# Altium footprint library Capacitor 22pF THT.PcbLib: 3 footprints
Each footprint in its own frame and in the unit in brackets; x right, y up, seen from the top. Pads: shape width x height; smd on the part's side, far side on the other; paste and mask are expansions set on the pad; w line width, h text height; cw(c..) or ccw(c..) is an arc to the next point about the centre after c.
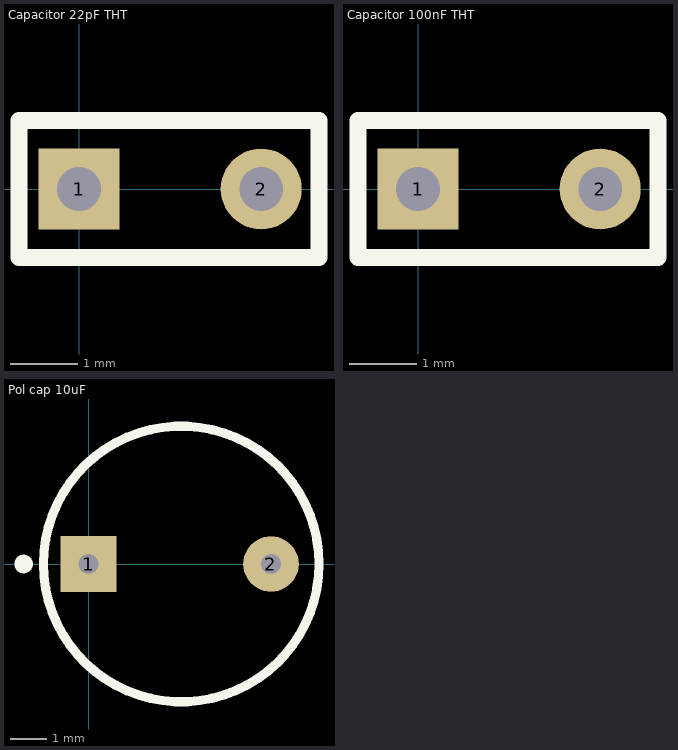
[diagram p0: the footprints below, top view; thin cyan lines are the x and y axes]

## Capacitor 22pF THT [mm]
pads (2):
  rect 1.2x1.2 hole 0.65: 1(0,0)
  round 1.2 hole 0.65: 2(2.7,0)
Top Overlay:
  lines w0.254: -0.889,-1.016 3.556,-1.016 3.556,1.016 -0.889,1.016 -0.889,-1.016

## Capacitor 100nF THT [mm]
pads (2):
  rect 1.2x1.2 hole 0.65: 1(0,0)
  round 1.2 hole 0.65: 2(2.7,0)
Top Overlay:
  lines w0.254: -0.889,-1.016 3.556,-1.016 3.556,1.016 -0.889,1.016 -0.889,-1.016

## Pol cap 10uF [mil]
pads (2):
  rect 60x60 hole 21.65: 1(0,0)
  round 60 hole 21.65: 2(196.85,0)
Top Overlay:
  circle w10: c-70,0 r5
  circle w10: c100,0 r148.66
3D body "ECA-1JM100B.STEP": height 492.13, standoff -610.24, extent -9.84,-98.43 206.69,98.43